# EAGLE library part LCMXO2-CN3 (library PartsForProto)
LCMX02変換基板用I/Fピン-3
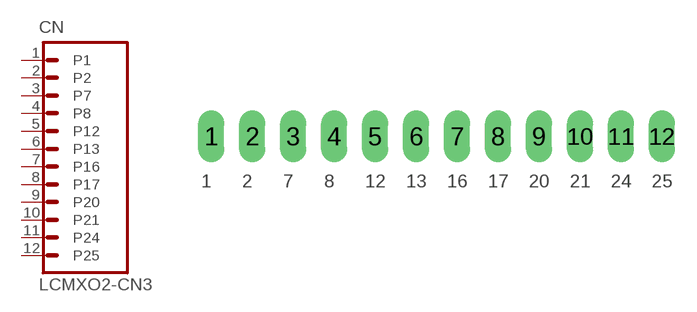
[diagram p8: symbol with the pads of LCMXO2-CN-3; footprint LCMXO2-CN-3]

Designator prefix CN

## LCMXO2-CN3  [LCMXO2-CN-3]
1  P1
2  P2
3  P7
4  P8
5  P12
6  P13
7  P16
8  P17
9  P20
10  P21
11  P24
12  P25

## Footprint LCMXO2-CN-3 (pad centres in mm)
PIN HEADER
drill 1 pad 1.6 long: 1 0,0; 2 2.54,0; 3 5.08,0; 4 7.62,0; 5 10.16,0; 6 12.7,0; 7 15.24,0; 8 17.78,0; 9 20.32,0; 10 22.86,0; 11 25.4,0; 12 27.94,0